# Altium schematic symbol library GMC32X7R225K100NT.SchLib: 2 symbols
Pins are listed as number, name and electrical type; pins without a type are passive.

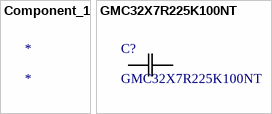
[diagram p0: symbols Component_1 to GMC32X7R225K100NT]

## Component_1
designator *

## GMC32X7R225K100NT
designator C?
No Description Available; Mfr_Name: Cal-Chip Electronics; Type: DEV; Copyright: Copyright (C) 2023 Ultra Librarian. All rights reserved.; Manufacturer_Part_Number: GMC32X7R225K100NT; RefDes: RefDes
footprint CAP_GMC32_2.8H_CCE
pins: 1, 2